# EAGLE library part 74AHC157 (library ARVP_07-15-13)
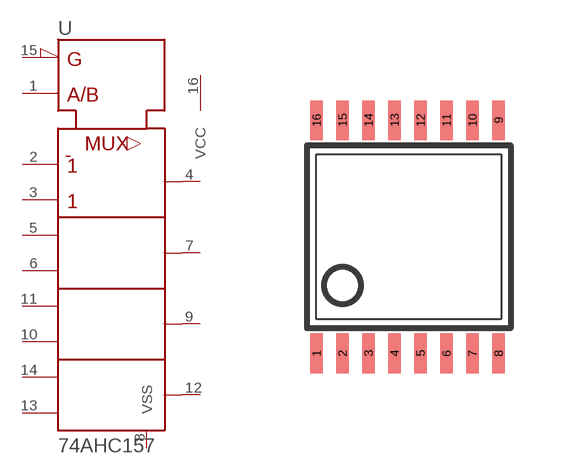
[diagram p14: symbol with the pads of TSSOP-16; footprint TSSOP-16]

Designator prefix -

## 74AHC157  [TSSOP-16]
1  !A/B  in
2  1A  in
3  1B  in
4  1Y  out
5  2A  in
6  2B  in
7  2Y  out
8  VSS  pwr
9  3Y  out
10  3B  in
11  3A  in
12  4Y  out
13  4B  in
14  4A  in
15  !G  in
16  VCC  pwr

## Footprint TSSOP-16 (pad centres in mm)
smd 0.305 x 0.991: 1 -2.305,-2.918; 2 -1.655,-2.918; 3 -1.005,-2.918; 4 -0.355,-2.918; 5 0.295,-2.918; 6 0.945,-2.918; 7 1.595,-2.918; 8 2.245,-2.918; 9 2.245,2.918; 10 1.595,2.918; 11 0.945,2.918; 12 0.295,2.918; 13 -0.355,2.918; 14 -1.005,2.918; 15 -1.655,2.918; 16 -2.305,2.918